# EAGLE library part ALPS_ROTARY_ENCODER (library taster)
Alps Rotary Encoder Type EC11E15445
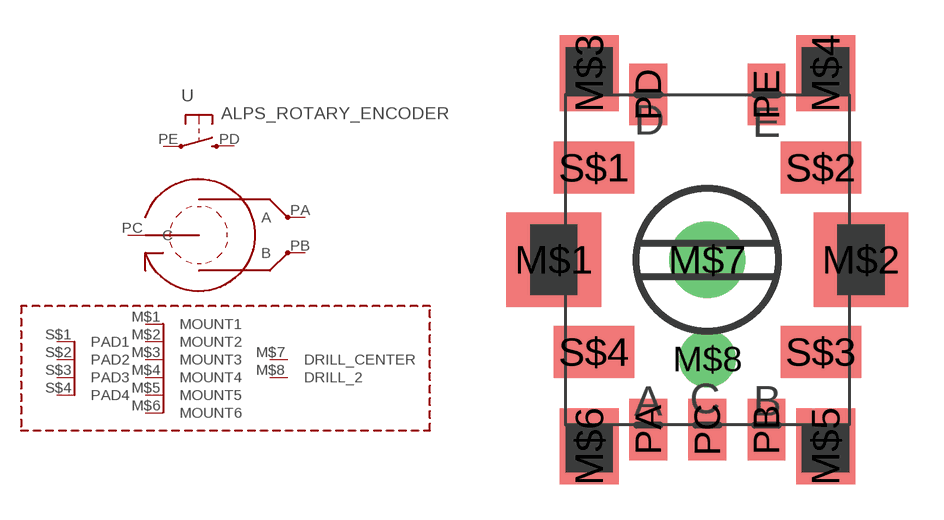
[diagram p0: symbol with the pads of ALP-EC11; footprint ALP-EC11]

Designator prefix -

## ALPS_ROTARY_ENCODER  [ALP-EC11]
M$1  MOUNT1
M$2  MOUNT2
M$3  MOUNT3
M$4  MOUNT4
M$5  MOUNT5
M$6  MOUNT6
M$7  DRILL_CENTER
M$8  DRILL_2
PA  A
PB  B
PC  C
PD  D  pas
PE  E  pas
S$1  PAD1
S$2  PAD2
S$3  PAD3
S$4  PAD4

## Footprint ALP-EC11 (pad centres in mm)
SMD package, push knob, ACB-Order
smd 4 x 4: M$1 -6.5,0; M$2 6.5,0
smd 2.5 x 3.2: M$3 -5,7.9; M$4 5,7.9; M$5 5,-7.9; M$6 -5,-7.9
drill 2.2 pad 2.54: M$7 0,0
drill 1.6 pad 2.184: M$8 0,-4.2
smd 1.6 x 2.6: PA -2.5,-7.2; PB 2.5,-7.2; PC 0,-7.2; PD -2.5,7; PE 2.5,7
smd 3.4 x 2.2: S$1 -4.8,3.9; S$2 4.8,3.9; S$3 4.8,-3.9; S$4 -4.8,-3.9